# Altium integrated library power_regulators.IntLib: 3 symbols
Pins are listed as number, name and electrical type; pins without a type are passive.

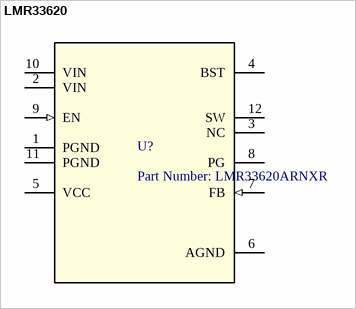
[diagram p0: symbol LMR33620]

## LMR33620
designator U?, comment Part Number: LMR33620ARNXR
SIMPLE SWITCHER® 3.8V to 36V, 2A Synchronous Buck Converter With Ultra-Low EMI; Manufacturer: Texas Instruments; PartNumber: LMR33620ARNXR; RefDes: RefDes; TYPE: TYPE; Value: Value
footprint RNX12 (RNX0012B)
pins: 1 PGND (power), 2 VIN (power), 3 NC, 4 BST, 5 VCC (power), 6 AGND (power), 7 FB (in), 8 PG (oc), 9 EN (in), 10 VIN (power), 11 PGND (power), 12 SW (power)


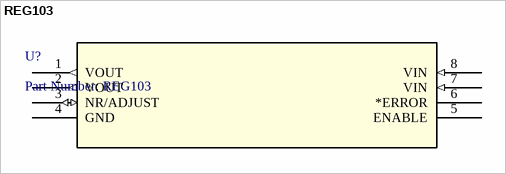
[diagram p1: symbol REG103]

## REG103
designator U?, comment Part Number: REG103
500-mA, 15-V, low-dropout voltage regulator with power good & enable; Manufacturer: Texas Instruments; Manufacturer_Part_Number: REG103UA-A/2K5; Built_By: EMA_UL_Team; Vendor: Texas Instruments; Copyright: Copyright (C) 2018 Accelerated Designs. All rights reserved; RefDes: RefDes; Type: DEV; Value: Value; ComponentLink1Description: Product Page; ComponentLink1URL: https://www.ti.com/product/REG103
footprint D8
footprint D8-L
footprint D8-M
pins: 1 VOUT (out), 2 VOUT (out), 3 NR/ADJUST (io), 4 GND (power), 5 ENABLE, 6 *ERROR, 7 VIN (in), 8 VIN (in)


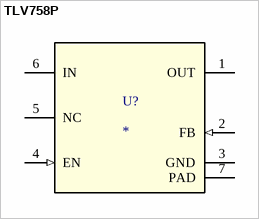
[diagram p2: symbol TLV758P]

## TLV758P
designator U?
500-mA, low-IQ, high-accuracy, adjustable ultra-low-dropout voltage regulator with enable; PartNumber: TLV75801PDRVR; Manufacturer: Texas Instruments; RefDes: RefDes; TYPE: TYPE; Value: Value; ComponentLink1Description: Product page; ComponentLink1URL: https://www.ti.com/product/TLV758P
footprint DRV_6A (DRV0006A)
footprint DRV_6A_NO_VIA (DRV0006A)
pins: 1 OUT (power), 2 FB (in), 3 GND (power), 4 EN (in), 5 NC, 6 IN (power), 7 PAD (power)